# EAGLE library part TDA8425 (library tda8425)
The TDA8425 is a monolithic bipolar integrated stereo sound circuit with a loudspeaker channel facility, digitally controlled via the I2C-bus for application in hi-fi audio and television sound. Library has been designed by Richard Magdycz.
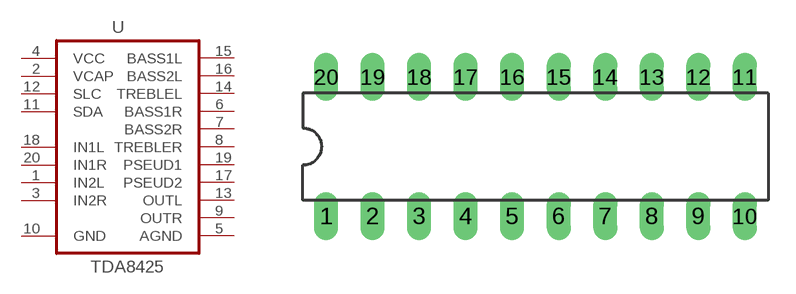
[diagram p0: symbol with the pads of DIL20; footprint DIL20]

Designator prefix U

## TDA8425  [DIL20]
1  IN2L  in
2  VCAP
3  IN2R  in
4  VCC  pwr
5  AGND  pwr
6  BASS1R
7  BASS2R
8  TREBLER
9  OUTR  out
10  GND  pwr
11  SDA
12  SLC
13  OUTL  out
14  TREBLEL
15  BASS1L
16  BASS2L
17  PSEUD2
18  IN1L  in
19  PSEUD1
20  IN1R  in

## Footprint DIL20 (pad centres in mm)
Dual In Line Package
drill 0.813 long: 1 -11.43,-3.81; 2 -8.89,-3.81; 3 -6.35,-3.81; 4 -3.81,-3.81; 5 -1.27,-3.81; 6 1.27,-3.81; 7 3.81,-3.81; 8 6.35,-3.81; 9 8.89,-3.81; 10 11.43,-3.81; 11 11.43,3.81; 12 8.89,3.81; 13 6.35,3.81; 14 3.81,3.81; 15 1.27,3.81; 16 -1.27,3.81; 17 -3.81,3.81; 18 -6.35,3.81; 19 -8.89,3.81; 20 -11.43,3.81